# Altium footprint library PCB封装库-中段板.PcbLib: 53 footprints (part 1 of 4)
Each footprint in its own frame and in the unit in brackets; x right, y up, seen from the top. Pads: shape width x height; smd on the part's side, far side on the other; paste and mask are expansions set on the pad; w line width, h text height; cw(c..) or ccw(c..) is an arc to the next point about the centre after c.
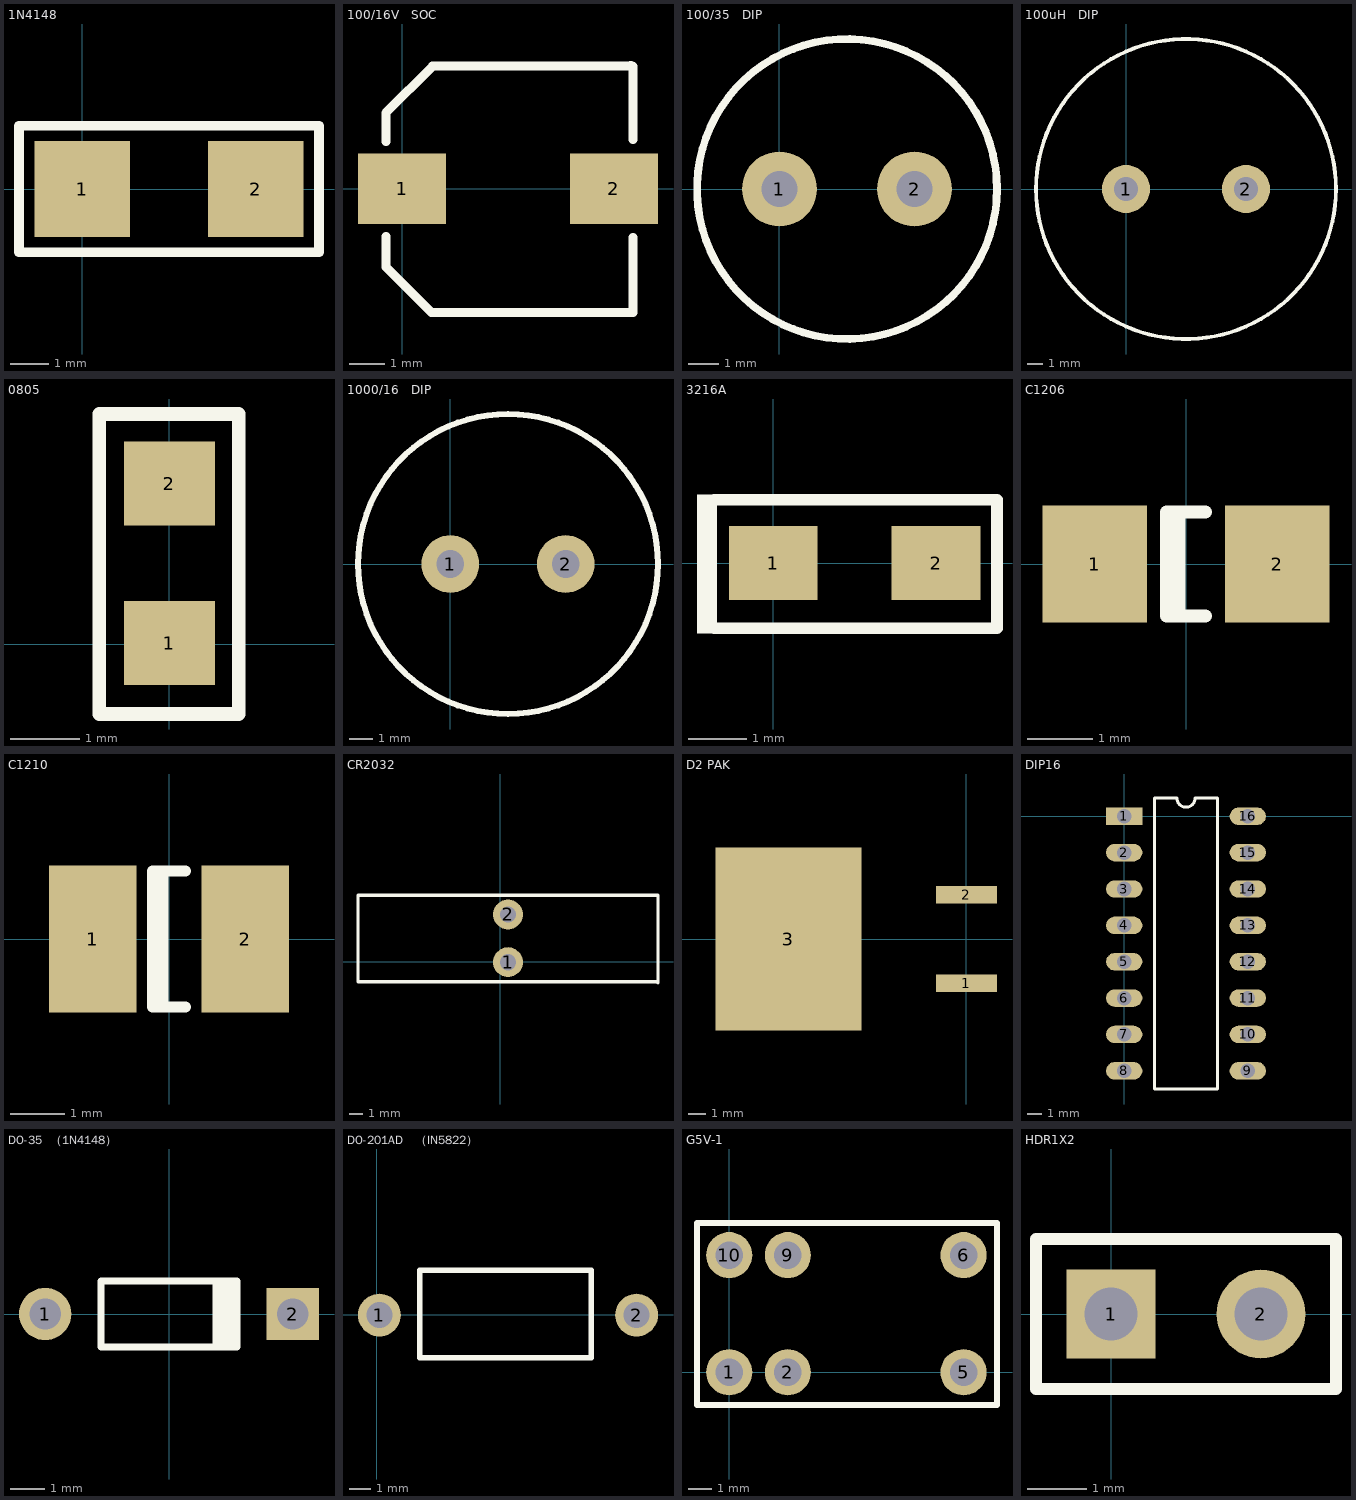
[diagram p0: the footprints below, top view; thin cyan lines are the x and y axes]

## 1N4148 [mm]
pads (2):
  rect 2.5x2.5 smd: 1(0,0) 2(4.547,0)
Top Overlay:
  lines w0.254: -1.651,-1.651 -1.651,1.651 6.198,1.651 6.198,-1.651 -1.651,-1.651

## 100/16V   SOC [mm]
pads (2):
  rect 2.5x2 smd: 1(0,0) 2(6,0)
Top Overlay:
  lines w0.254: -0.457,-2.21 0.838,-3.505 6.543,-3.505 6.543,-1.372 ; -0.457,-2.184 -0.457,-1.346 ; -0.457,1.346 -0.457,2.134 ; -0.457,2.159 0.864,3.48 6.452,3.48 6.474,3.502 6.543,3.474 6.543,1.397

## 100/35   DIP [mm]
pads (2):
  round 2.5 hole 1.2: 1(0,0) 2(4.5,0)
Top Overlay:
  circle w0.254: c2.25,0 r5

## 100uH   DIP [mm]
pads (2):
  round 3.2 hole 1.6: 1(0,0) 2(8,0)
Top Overlay:
  circle w0.254: c4,0 r10

## 0805 [mm]
pads (2):
  rect 1.3x1.2 smd: 1(0.004,0.019) 2(0.004,2.305)
Top Overlay:
  lines w0.2: -1.002,-0.999 0.998,-0.999 0.998,3.301 -1.002,3.301 -1.002,-0.999

## 1000/16   DIP [mm]
pads (2):
  round 2.5 hole 1.2: 1(0,0) 2(5,0)
Top Overlay:
  circle w0.254: c2.5,0 r6.5

## 3216A [mil]
pads (2):
  rect 60x50 smd: 1(-0.11,-0.06) 2(109.89,-0.06)
Top Overlay:
  region: -37.97,46.34 -51.57,46.34 -51.57,-47.66 -37.97,-47.66
  lines w7.87: -39.94,-43.97 151,-43.97 151,42.64 -39.94,42.64

## C1206 [mm] "Chip Capacitor; Body 3.2 x 1.6 mm (LxW typ)"
height 1.35
pads (2):
  rect 1.6x1.8 smd: 1(-1.4,0) 2(1.4,0)
Top Overlay:
  lines w0.2: -0.11,-0.8 -0.11,0.8 ; 0.3,-0.8 -0.3,-0.8 -0.3,0.8 0.3,0.8

## C1210 [mm] "Chip Capacitor; Body 3.2 x 2.5 mm (LxW typ)"
height 1.35
pads (2):
  rect 1.6x2.7 smd: 1(-1.4,0) 2(1.4,0)
Top Overlay:
  lines w0.2: -0.11,-1.25 -0.11,1.25 ; 0.3,-1.25 -0.3,-1.25 -0.3,1.25 0.3,1.25

## CR2032 [mm]
pads (2):
  round 2.2 hole 1.2: 1(0.559,-0.051) 2(0.559,3.449)
Top Overlay:
  lines w0.254: -10.441,-1.473 -10.441,4.849 11.559,4.849 11.559,-1.548 11.484,-1.473 -10.441,-1.473

## D2 PAK [mm]
pads (3):
  rect 3.504x1.016 smd: 1(0,-2.54) 2(0,2.54)
  rect 8.38x10.49 smd: 3(-10.213,0)

## DIP16 [mm]
pads (16):
  rect 2.5x1.2 hole 1: 1(0,0)
  oval 2.5x1.2 hole 1: 2(0,-2.5) 3(0,-5) 4(0,-7.5) 5(0,-10) 6(0,-12.5) 7(0,-15) 8(0,-17.5) 9(8.5,-17.5) 10(8.5,-15) 11(8.5,-12.5) 12(8.5,-10) 13(8.5,-7.5) 14(8.5,-5) 15(8.5,-2.5) 16(8.5,0)
Top Overlay:
  lines w0.2: 2.085,-18.75 6.415,-18.75 6.415,1.25 4.875,1.25 cw(c4.25,1.25) 3.625,1.25 2.085,1.25 2.085,-18.75

## DO-35  （1N4148） [mm] "Diode, Axial; Body 3.8 x 1.9 mm (LxDia. max), Lead Dia. 0.53 mm (max)"
height 1.9
pads (2):
  round 1.5 hole 0.9: 1(-3.55,0)
  rect 1.5x1.5 hole 0.9: 2(3.55,0)
Top Overlay:
  rectangle: 1.25,-0.95 2.05,0.95
  lines w0.2: 1.95,-0.95 -1.95,-0.95 -1.95,0.95 1.95,0.95

## DO-201AD   （IN5822） [mm]
pads (2):
  round 2 hole 1.2: 1(0.116,-0.025) 2(12.116,-0.025)
Top Overlay:
  lines w0.254: 2.007,-2.007 2.007,2.057 10,2.057 10,-2.007 2.032,-2.007

## G5V-1 [mm]
pads (6):
  round 2 hole 1.2: 1(0,0) 2(2.54,0) 5(10.16,0) 6(10.16,5.08) 9(2.54,5.08) 10(0,5.08)
Top Overlay:
  lines w0.254: -1.397,-1.422 -1.397,6.477 11.608,6.477 11.608,-1.422 -1.397,-1.422

## HDR1X2 [mm] "Connector; Header; 2 Position"
pads (2):
  rect 1.5x1.5 hole 0.9: 1(0,0)
  round 1.5 hole 0.9: 2(2.54,0)
Top Overlay:
  lines w0.2: -1.27,-1.27 3.81,-1.27 3.81,1.27 -1.27,1.27 -1.27,-1.27